# Altium footprint library SD_Card.PcbLib: 3 footprints
Each footprint in its own frame and in the unit in brackets; x right, y up, seen from the top. Pads: shape width x height; smd on the part's side, far side on the other; paste and mask are expansions set on the pad; w line width, h text height; cw(c..) or ccw(c..) is an arc to the next point about the centre after c.
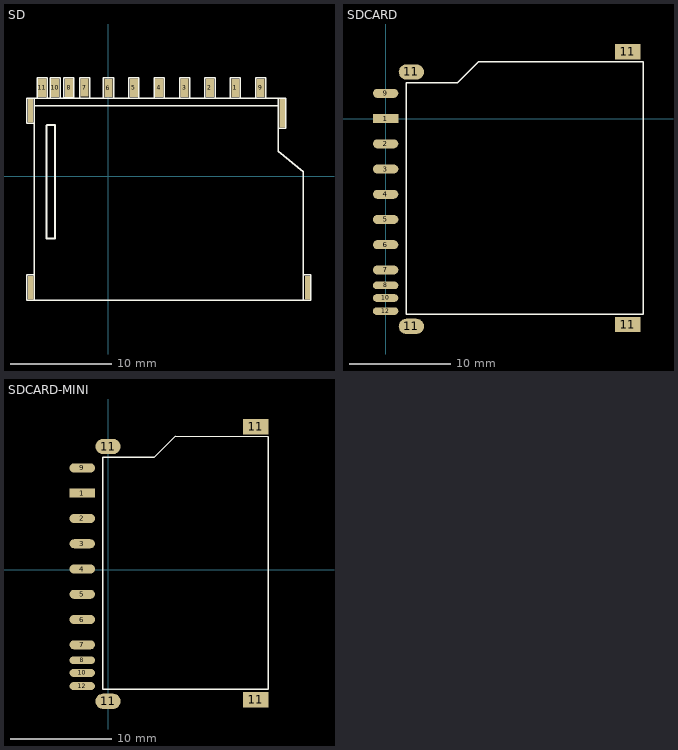
[diagram p0: the footprints below, top view; thin cyan lines are the x and y axes]

## SD [mm]
pads (15):
  rect 0.8x1.8 smd: 1(12.534,8.691) 2(10.034,8.701) 3(7.534,8.721) 4(5.034,8.711) 5(2.534,8.711) 6(0.024,8.681) 7(-2.326,8.731) 8(-3.856,8.711) 9(15.024,8.691) 10(-5.226,8.711) 11(-6.496,8.701)
  rect 0.5x2.3 smd: GND(-7.636,6.451)
  rect 0.5x2.305 smd: GND(-7.626,-10.984) GND(19.624,-10.984)
  rect 0.5x2.8 smd: GND(17.154,6.181)
Top Overlay:
  lines w0.127: -8.012,-12.244 -7.262,-12.244 -7.262,6.947 ; -8.012,-12.228 -8.012,-9.728 -7.262,-9.728 -7.262,-12.228 ; -7.262,6.931 cw(c-7.238,6.906) -7.238,6.941 -6.912,6.941 16.771,6.941 ; -7.219,-12.244 19.281,-12.244 ; -0.579,6.947 0.421,6.947 ; -0.469,7.697 -0.469,9.697 0.531,9.697 0.531,7.697 ; 1.921,6.947 2.921,6.947 ; 2.031,7.697 2.031,9.697 3.031,9.697 3.031,7.697 ; 4.421,6.947 5.421,6.947 ; 4.531,7.697 4.531,9.697 5.531,9.697 5.531,7.697 ; 6.921,6.947 7.921,6.947 ; 7.031,7.697 7.031,9.697 8.031,9.697 8.031,7.697 ; 9.421,6.947 10.421,6.947 ; 9.531,7.697 9.531,9.697 10.531,9.697 10.531,7.697 ; 11.921,6.947 12.921,6.947 ; 12.031,7.697 12.031,9.697 13.031,9.697 13.031,7.697 ; 14.421,6.947 15.421,6.947 ; 14.531,7.697 14.531,9.697 15.531,9.697 15.531,7.697 ; 16.771,6.931 16.771,2.431 19.234,0.431 ; 17.171,7.697 -7.262,7.697 ; 19.238,-12.228 19.238,-9.728 19.988,-9.728 19.988,-12.228 ; 19.238,0.456 19.238,-12.244 19.988,-12.244 ; -7.262,7.697 -8.012,7.697 -8.012,5.197 -7.262,5.197 -7.262,7.697 ; -6.999,7.697 -5.999,7.697 -5.999,9.697 -6.999,9.697 -6.999,7.697 ; -5.723,7.697 -4.723,7.697 -4.723,9.697 -5.723,9.697 -5.723,7.697 ; -4.367,7.707 -3.367,7.707 -3.367,9.707 -4.367,9.707 -4.367,7.707 ; -2.822,7.697 -1.822,7.697 -1.822,9.697 -2.822,9.697 -2.822,7.697 ; 16.771,4.697 17.521,4.697 17.521,7.697 16.771,7.697 16.771,4.697
  lines w0.2: -6.056,-6.149 -5.216,-6.149 -5.216,5.021 -6.036,5.021 -6.056,5.001 -6.056,-6.149

## SDCARD [mil]
pads (15):
  rect 98.42x35 smd: 1(0,0)
  oval 98.43x35 smd: 2(0,-98) 3(0,-196) 4(0,-294) 5(0,-392) 6(0,-490) 7(0,-588) 9(0,98)
  oval 98.42x30 smd: 8(0,-648) 10(0,-697) 12(0,-748)
  oval 98.42x59.05 smd: 11(100,-807.09) 11(100,181.1)
  rect 98.42x59.05 smd: 11(940,-800) 11(940,260)
Top Overlay:
  lines w6: 220,140 80,140 ; 780,220 1000,220 1000,-760 880,-760 ; 900,-760 80,-760 80,140 ; 900,220 360,220 280,140 80,140

## SDCARD-MINI [mm] "小型的SD卡插座"
height 3.2
pads (15):
  rect 2.5x0.889 smd: 1(-2.54,7.518)
  oval 2.5x0.889 smd: 2(-2.54,5.029) 3(-2.54,2.54) 4(-2.54,0.051) 5(-2.54,-2.438) 6(-2.54,-4.928) 7(-2.54,-7.417) 9(-2.54,10.008)
  oval 2.5x0.762 smd: 8(-2.54,-8.941) 10(-2.54,-10.185) 12(-2.54,-11.481)
  oval 2.5x1.5 smd: 11(0,-12.982) 11(0,12.118)
  rect 2.5x1.5 smd: 11(14.55,-12.82) 11(14.55,14.07)
Top Layer:
  lines w0.254: -0.001,12.372 0.001,11.864
Top Overlay:
  lines w0.152: 3.048,11.074 -0.508,11.074 ; -0.508,11.074 -0.508,-11.786 15.761,-11.811 15.761,13.081 6.604,13.106 4.572,11.074 -0.508,11.074